# EAGLE library part 61302621821 (library Board_to_Board_Connectors_rev15d)
WR-PHD 2.54mm Dual Socket Header, 26 Pins =>Code : Con_BTB_SHD_2.54_2_61302621821 <http://katalog.we-online.de/media/images/eican/Con_BTB_SHD_2.54_2_6130xx21821_pf2.jpg> Details see: http://katalog.we-online.de/en/em/613_0xx_218_21 Created 2014-05-29, Karrer Zheng 2014 (C) Würth Elektronik
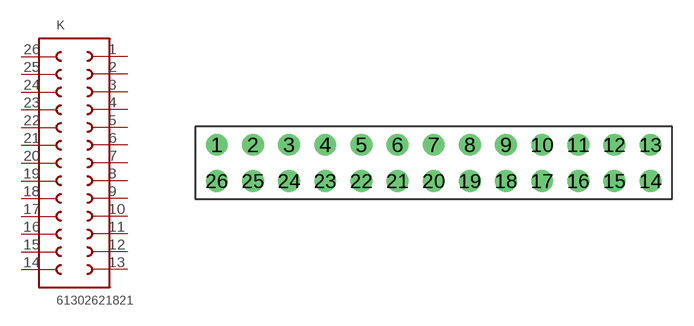
[diagram p119: symbol with the pads of 61302621821; footprint 61302621821]

Designator prefix K

## 61302621821  [61302621821]
1  1  pas
2  2  pas
3  3  pas
4  4  pas
5  5  pas
6  6  pas
7  7  pas
8  8  pas
9  9  pas
10  10  pas
11  11  pas
12  12  pas
13  13  pas
14  14  pas
15  15  pas
16  16  pas
17  17  pas
18  18  pas
19  19  pas
20  20  pas
21  21  pas
22  22  pas
23  23  pas
24  24  pas
25  25  pas
26  26  pas

## Footprint 61302621821 (pad centres in mm)
WR-PHD 2.54mm Dual Socket Header, 26 Pins
drill 1.02: 1 -15.24,1.27; 2 -12.7,1.27; 3 -10.16,1.27; 4 -7.62,1.27; 5 -5.08,1.27; 6 -2.54,1.27; 7 0,1.27; 8 2.54,1.27; 9 5.08,1.27; 10 7.62,1.27; 11 10.16,1.27; 12 12.7,1.27; 13 15.24,1.27; 14 15.24,-1.27; 15 12.7,-1.27; 16 10.16,-1.27; 17 7.62,-1.27; 18 5.08,-1.27; 19 2.54,-1.27; 20 0,-1.27; 21 -2.54,-1.27; 22 -5.08,-1.27; 23 -7.62,-1.27; 24 -10.16,-1.27; 25 -12.7,-1.27; 26 -15.24,-1.27